# EAGLE library part LTC5508ESC6TRMPBF (library boat_light)
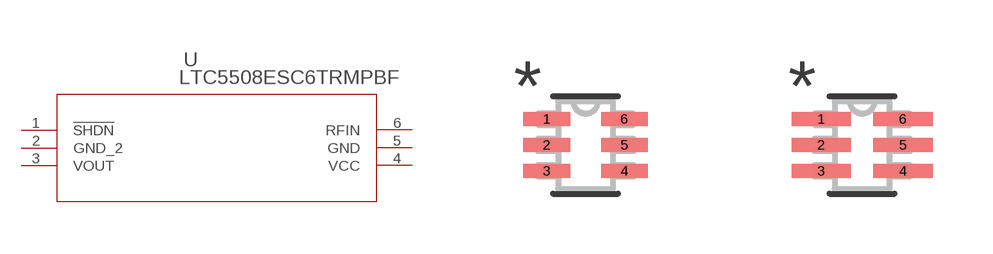
[diagram p1: symbol with the pads of SOT-6_SC_LIT; footprints SOT-6_SC_LIT, SOT-6_SC_LIT-M]

Designator prefix U

## LTC5508ESC6TRMPBF (COPYRIGHT: Copyright (C) 2022 Ultra Librarian. All rights reserved.; DIGI-KEY_PART_NUMBER_1: LTC5508ESC6#TRMPBFCT-ND; DIGI-KEY_PART_NUMBER_2: LTC5508ESC6#TRMPBFDKR-ND; DIGI-KEY_PART_NUMBER_3: LTC5508ESC6#TRMPBFTR-ND; MANUFACTURER_PART_NUMBER: LTC5508ESC6#TRMPBF; MFR_NAME: Analog Devices / Linear Technology)  [SOT-6_SC_LIT]
1  !SHDN  pas
2  GND_2  pwr
3  VOUT  out
4  VCC  pwr
5  GND  pwr
6  RFIN  in

## LTC5508ESC6TRMPBFSOT-6_SC_LIT-M (COPYRIGHT: Copyright (C) 2022 Ultra Librarian. All rights reserved.; DIGI-KEY_PART_NUMBER_1: LTC5508ESC6#TRMPBFCT-ND; DIGI-KEY_PART_NUMBER_2: LTC5508ESC6#TRMPBFDKR-ND; DIGI-KEY_PART_NUMBER_3: LTC5508ESC6#TRMPBFTR-ND; MANUFACTURER_PART_NUMBER: LTC5508ESC6#TRMPBF; MFR_NAME: Analog Devices / Linear Technology)  [SOT-6_SC_LIT-M]
Pads as for SOT-6_SC_LIT

## LTC5508ESC6TRMPBFSOT-6_SC_LIT-L (COPYRIGHT: Copyright (C) 2022 Ultra Librarian. All rights reserved.; DIGI-KEY_PART_NUMBER_1: LTC5508ESC6#TRMPBFCT-ND; DIGI-KEY_PART_NUMBER_2: LTC5508ESC6#TRMPBFDKR-ND; DIGI-KEY_PART_NUMBER_3: LTC5508ESC6#TRMPBFTR-ND; MANUFACTURER_PART_NUMBER: LTC5508ESC6#TRMPBF; MFR_NAME: Analog Devices / Linear Technology)  [SOT-6_SC_LIT-L]
Pads as for SOT-6_SC_LIT

## Footprint SOT-6_SC_LIT (pad centres in mm)
smd 1.171 x 0.351: 1 -0.97,0.65; 2 -0.97,0; 3 -0.97,-0.65; 4 0.97,-0.65; 5 0.97,0; 6 0.97,0.65

## Footprint SOT-6_SC_LIT-M (pad centres in mm)
smd 1.476 x 0.351: 1 -1.021,0.65; 2 -1.021,0; 3 -1.021,-0.65; 4 1.021,-0.65; 5 1.021,0; 6 1.021,0.65

## Footprint SOT-6_SC_LIT-L (pad centres in mm)
smd 0.866 x 0.3: 1 -0.919,0.65; 2 -0.919,0; 3 -0.919,-0.65; 4 0.919,-0.65; 5 0.919,0; 6 0.919,0.65